# Altium schematic symbol library ms_Schlib.SchLib: 69 symbols
Pins are listed as number, name and electrical type; pins without a type are passive.

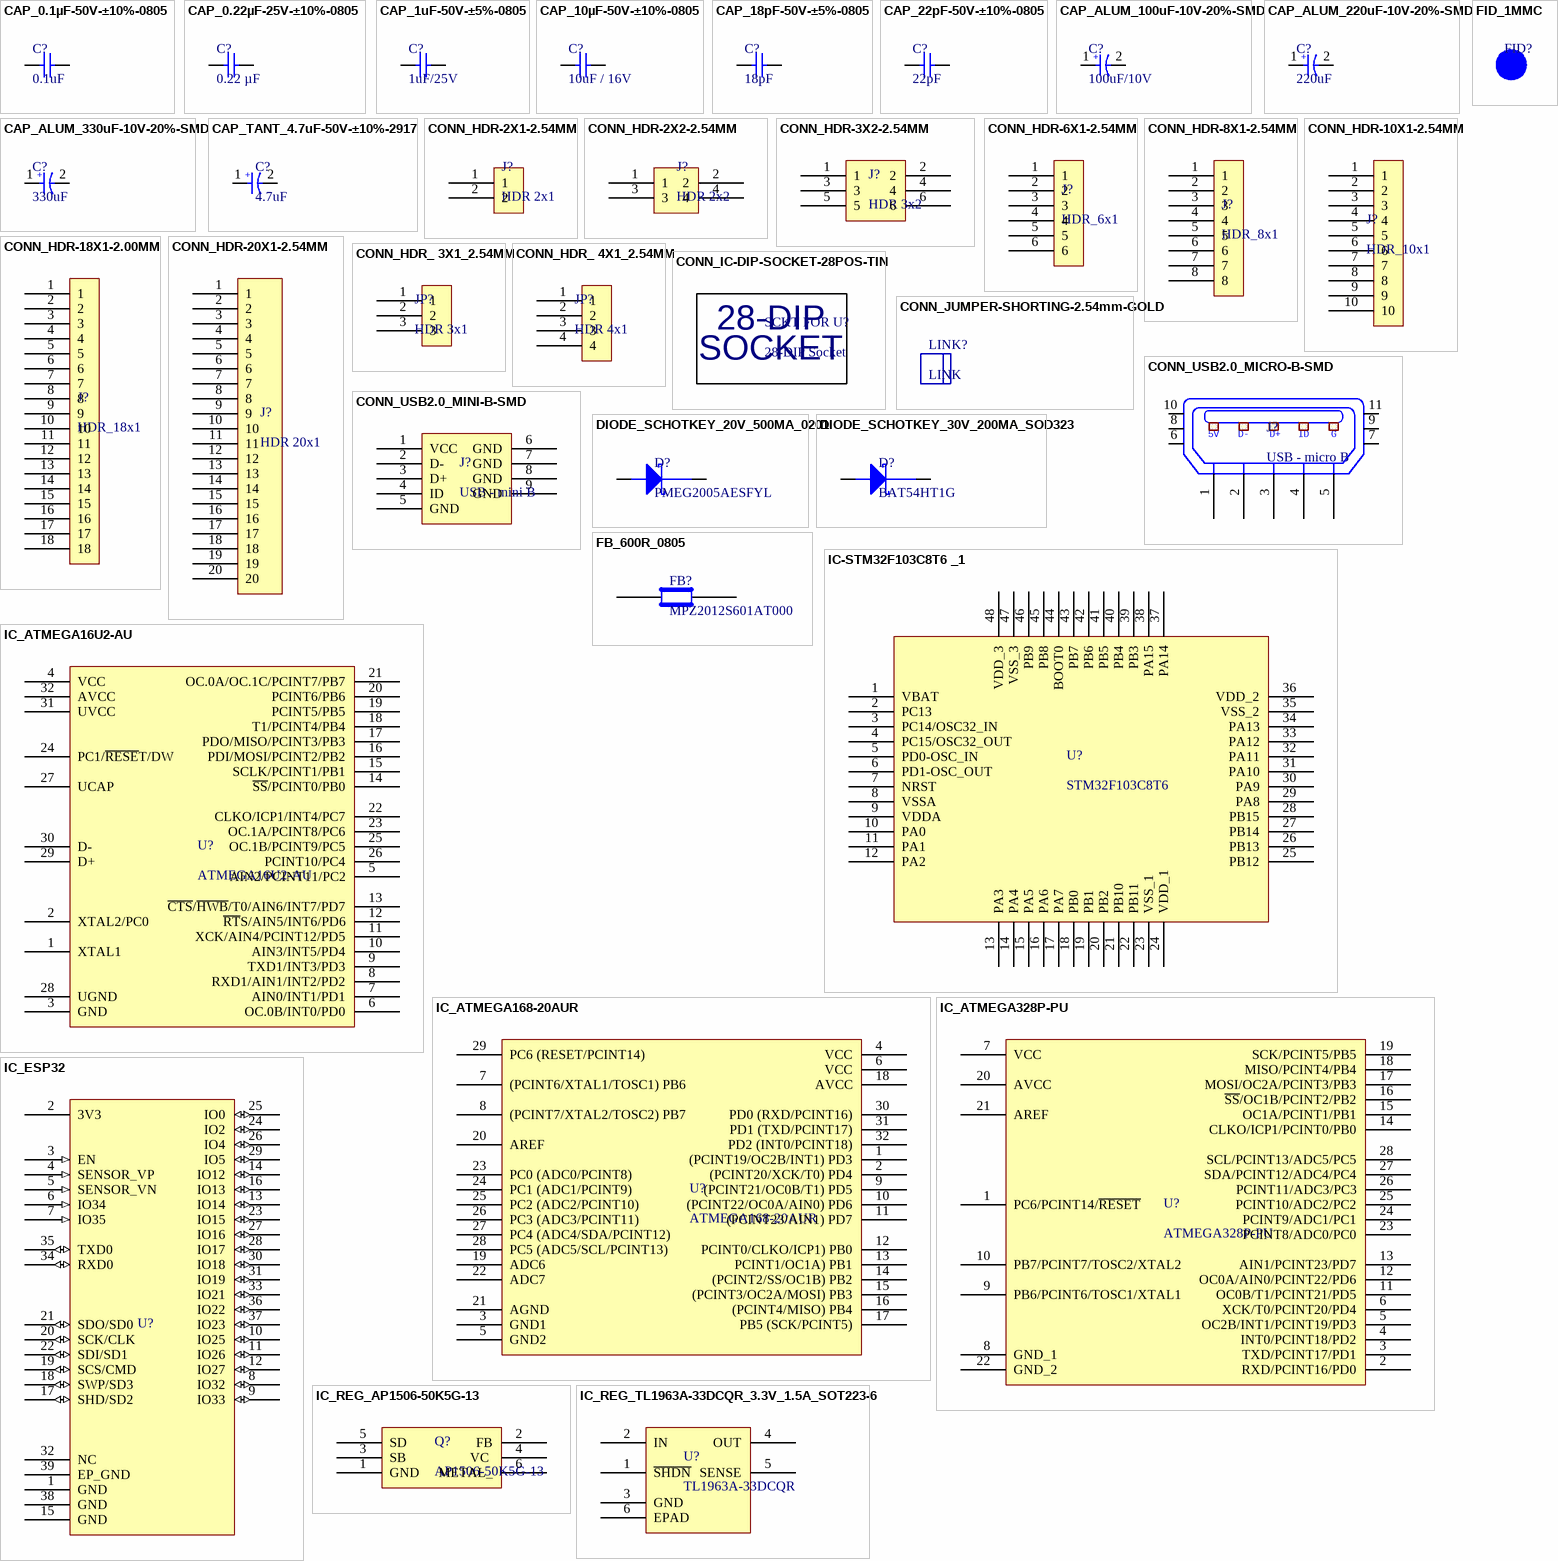
[diagram p0: symbols CAP_0.1µF-50V-±10%-0805 to IC_REG_TL1963A-33DCQR_3.3V_1.5A_SOT223-6]

## CAP_0.1µF-50V-±10%-0805
designator C?, comment 0.1uF
0.1 µF ±10% 50V Ceramic Capacitor X7R 0805 (2012 Metric); Manufacturer: TDK Corporation; Manufacturing Part Number: C2012X7R1H104K085AA; Package/Case: 0805 (2012 Metric); Supplier: Digikey; Supplier Part Number: 445-7534-1-ND
footprint C0805
pins: 1, 2

## CAP_0.22µF-25V-±10%-0805
designator C?, comment 0.22 µF
0.22 µF ±10% 25V Ceramic Capacitor X7R 0805 (2012 Metric); Manufacturer: KEMET; Manufacturing Part Number: C0805X224K3RECAUTO; Case/Package: 0805 (2012 Metric); Supplier: Digikey; Supplier Part Number: 399-C0805X224K3RECAUTOCT-ND
footprint C0805
pins: 1, 2

## CAP_1uF-50V-±5%-0805
designator C?, comment 1uF/25V
1 µF ±10% 25V Ceramic Capacitor X5R 0805 (2012 Metric); Manufacturer: TDK Corporation; Manufacturing Part Number: C2012X5R1E105K125AA; Package/Case: 0805 (2012 Metric); Supplier: Digikey; Supplier Part Number: 445-1419-1-ND
footprint C0805
pins: 1, 2

## CAP_10µF-50V-±10%-0805
designator C?, comment 10uF / 16V
10 µF ±20% 16V Ceramic Capacitor X5R 0805 (2012 Metric); Manufacturer: TDK Corporation; Manufacturing Part Number: C2012X5R1C106M125AC; Package/Case: 0805 (2012 Metric); Supplier: Digikey; Supplier Part Number: 445-4115-1-ND
footprint C0805
pins: 1, 2

## CAP_18pF-50V-±5%-0805
designator C?, comment 18pF
18 pF ±5% 50V Ceramic Capacitor C0G, NP0 0805 (2012 Metric); Manufacturer: KEMET; Manufacturing Part Number: C0805C180J5GAC7800; Package/Case: 0805 (2012 Metric); Supplier: Digikey; Supplier Part Number: 399-C0805C180J5GAC7800CT-ND
footprint C0805
pins: 1, 2

## CAP_22pF-50V-±10%-0805
designator C?, comment 22pF
22 pF ±5% 50V Ceramic Capacitor C0G, NP0 0805 (2012 Metric); Manufacturer: KEMET; Manufacturing Part Number: C0805C220J5GAC7800; Package/Case: 0805 (2012 Metric); Supplier: Digikey; Supplier Part Number: 399-C0805C220J5GAC7800CT-ND
footprint C0805
pins: 1, 2

## CAP_ALUM_100uF-10V-20%-SMD
designator C?, comment 100uF/10V
100 µF 10 V Aluminum Electrolytic Capacitors Radial, Can - SMD - 1000 Hrs @ 85°C; Manufacturer: Panasonic Electronic Components; Manufacturing Part Number: EEE-1AA101WR; Package/Case: Radial, Can - SMD; Supplier: Digikey; Supplier Part Number: PCE3867CT-ND
footprint C_ALU_C_SIZE
pins: 1, 2
text: +

## CAP_ALUM_220uF-10V-20%-SMD
designator C?, comment 220uF
Manufacturer: *; Manufacturing Part Number: *; Package/Case: *; Supplier: Digikey; Supplier Part Number: *
pins: 1, 2
text: +

## CAP_ALUM_330uF-10V-20%-SMD
designator C?, comment 330uF
Manufacturer: *; Manufacturing Part Number: *; Package/Case: *; Supplier: Digikey; Supplier Part Number: *
pins: 1, 2
text: +

## CAP_TANT_4.7uF-50V-±10%-2917
designator C?, comment 4.7uF
4.7 µF Molded Tantalum Capacitors 50 V 2917 (7343 Metric) 1.4Ohm; Manufacturer: KEMET; Manufacturing Part Number: T491D475K050AT; Package/Case: 2917 (7343 Metric); Supplier: Digikey; Supplier Part Number: 399-3792-1-ND
footprint C-2917
pins: 1, 2
text: +

## CONN_HDR-2X1-2.54MM
designator J?, comment HDR 2x1
Connector Header Through Hole 2 position 0.100" (2.54mm); Manufacturer: Adam Tech; Manufacturing Part Number: PH2-02-UA; Case/Package: TH; Supplier: Digikey; Supplier Part Number: 2057-PH2-02-UA-ND
footprint HDR_2X1_2.54MM
pins: 1, 2

## CONN_HDR-2X2-2.54MM
designator J?, comment HDR 2x2
Connector Header Through Hole 4 position 0.100" (2.54mm); Manufacturer: Amphenol ICC (FCI); Manufacturing Part Number: 68602-204HLF; Package/Case: TH; Supplier: Digikey; Supplier Part Number: 609-3369-ND
footprint HDR_2X2_2.54MM
pins: 1, 2, 3, 4

## CONN_HDR-3X2-2.54MM
designator J?, comment HDR 3x2
Connector Header Through Hole 6 position 0.100" (2.54mm); Manufacturer: Amphenol ICC (FCI); Manufacturing Part Number: 67997-106HLF; Package/Case: TH; Supplier: Digikey; Supplier Part Number: 609-3393-ND
footprint HDR_3X2_2.54MM
pins: 1, 2, 3, 4, 5, 6

## CONN_HDR-6X1-2.54MM
designator J?, comment HDR_6x1
6 Position Receptacle Connector 0.100" (2.54mm) Through Hole Tin; Manufacturer: Harwin Inc.; Manufacturing Part Number: M20-7820646; Package/Case: TH; Supplier: Digikey; Supplier Part Number: 952-1809-ND
footprint Hdr_Female_6x1_2.54mm
pins: 1, 2, 3, 4, 5, 6

## CONN_HDR-8X1-2.54MM
designator J?, comment HDR_8x1
8 Position Receptacle Connector 0.100" (2.54mm) Through Hole Gold; Manufacturer: Harwin Inc.; Manufacturing Part Number: M20-7820842; Package/Case: TH; Supplier: Digikey; Supplier Part Number: 952-1823-ND
footprint Hdr_Female_8x1_2.54mm
pins: 1, 2, 3, 4, 5, 6, 7, 8

## CONN_HDR-10X1-2.54MM
designator J?, comment HDR_10x1
10 Position Receptacle Connector 0.100" (2.54mm) Through Hole Tin; Manufacturer: Harwin Inc.; Manufacturing Part Number: M20-7821046; Package/Case: TH; Supplier: Digikey; Supplier Part Number: 952-1847-ND
footprint Hdr_Female_10x1_2.54mm
pins: 1, 2, 3, 4, 5, 6, 7, 8, 9, 10

## CONN_HDR-18X1-2.00MM
designator J?, comment HDR_18x1
Connector Header Through Hole 18 position 0.079"(2.00mm); Manufacturer: 3M; Manufacturing Part Number: 951118-8622-AR; Package/Case: TH; Supplier: Digikey; Supplier Part Number: 3M156413-18-ND
footprint HDR_18x1_2MM
pins: 1, 2, 3, 4, 5, 6, 7, 8, 9, 10, 11, 12, 13, 14, 15, 16, 17, 18

## CONN_HDR-20X1-2.54MM
designator J?, comment HDR 20x1
Connector Header Through Hole 20 position 0.100" (2.54mm); Manufacturer: Amphenol ICC (FCI); Manufacturing Part Number: 68000-220HLF; Package/Case: TH; Supplier: Digikey; Supplier Part Number: 609-5100-ND
footprint HDR_20X1_2.54MM
pins: 1, 2, 3, 4, 5, 6, 7, 8, 9, 10, 11, 12, 13, 14, 15, 16, 17, 18, 19, 20

## CONN_HDR_ 3X1_2.54MM
designator JP?, comment HDR 3x1
Connector Header Through Hole 3 position 0.100" (2.54mm); Manufacturer: Amphenol ICC (FCI); Manufacturing Part Number: 68000-103HLF; Package/Case: TH; Supplier: Digikey; Supplier Part Number: 609-3461-ND
footprint HDR_3X1_2.54MM
pins: 1, 2, 3

## CONN_HDR_ 4X1_2.54MM
designator JP?, comment HDR 4x1
Connector Header Through Hole 4 position 0.100" (2.54mm); Manufacturer: Amphenol ICC (FCI); Manufacturing Part Number: 68001-204HLF; Package/Case: TH; Supplier: Digikey; Supplier Part Number: 609-3402-ND
footprint HDR_4X1_2.54MM
pins: 1, 2, 3, 4

## CONN_IC-DIP-SOCKET-28POS-TIN
designator SCKT FOR U?, comment 28-DIP Socket
28 (2 x 14) Pos DIP, 0.3" (7.62mm) Row Spacing Socket Tin Through Hole; Manufacturer: 3M; Manufacturing Part Number: 4828-3004-CP; Package/Case: TH; Supplier: Digikey; Supplier Part Number: 3M5480-ND
footprint 28_DIP_7.62mm_SOCKET
text: 28-DIP; SOCKET

## CONN_JUMPER-SHORTING-2.54mm-GOLD
designator LINK?, comment LINK  (mechanical)
2 (1 x 2) Position Shunt Connector Black Open Top 0.100" (2.54mm) Gold; Manufacturer: Sullins Connector Solutions; Manufacturing Part Number: QPC02SXGN-RC; Package/Case: NA; Supplier: Digikey; Supplier Part Number: S9337-ND

## CONN_USB2.0_MICRO-B-SMD
designator J?, comment USB - micro B
USB - micro B USB 2.0 Receptacle Connector 5 Position Surface Mount, Right Angle; Through Hole; Manufacturer: Amphenol ICC (FCI); Manufacturing Part Number: 10118193-0001LF; Package/Case: SMD; Supplier: Digikey; Supplier Part Number: 609-4616-1-ND
footprint 10118193
pins: 1 P1, 2 P2, 3 P3, 4 P4, 5 P5, 6, 7, 8, 9, 10, 11
text: 5V; D-; D+; ID; G

## CONN_USB2.0_MINI-B-SMD
designator J?, comment USB - mini B
USB - mini B USB 2.0 OTG  Receptacle Connector 5 Position Surface Mount, Right Angle; Manufacturer: Molex; Manufacturing Part Number: 0675031020; Package/Case: SMD; Supplier: Digikey; Supplier Part Number: WM5461CT-ND
footprint Mini_USB-B
pins: 1 VCC, 2 D-, 3 D+, 4 ID, 5 GND, 6 GND, 7 GND, 8 GND, 9 GND

## DIODE_SCHOTKEY_20V_500MA_0201
designator D?, comment PMEG2005AESFYL
Diode Schottky 20 V 500mA Surface Mount DSN0603-2; Manufacturer: Nexperia USA Inc.; Manufacturing Part Number: PMEG2005AESFYL; Package/Case: 0201 (0603 Metric); Supplier: Digikey; Supplier Part Number: 1727-2287-1-ND
footprint L-1210
pins: 1 Cathode, 2 Anode

## DIODE_SCHOTKEY_30V_200MA_SOD323
designator D?, comment BAT54HT1G
DIODE SCHOTKEY 30V 200MA SOD323; Manufacturer: Fairchild Semiconductor; Manufacturing Part Number: BAT54HT1G; Package/Case: SOD323; Supplier: Digikey; Supplier Part Number: BAT54HT1GCT-ND
footprint SOD323
pins: 1 Cathode, 2 Anode

## FB_600R_0805
designator FB?, comment MPZ2012S601AT000
600 Ohms @ 100 MHz 1 Power Line Ferrite Bead 0805 (2012 Metric) 2A 100mOhm; Manufacturer: TDK Corporation; Manufacturing Part Number: MPZ2012S601AT000; Package/Case: 0805 (2012 Metric); Supplier: Digikey; Supplier Part Number: 445-2206-1-ND
footprint C0805
pins: 1, 2

## FID_1MMC
designator FID?  (value not drawn)  (no BOM)
Fiducial 40mil Diameter, 120mil Mask; Manufacturer: NA; Manufacturing Part Number: NA; Package/Case: NA; Supplier: NA; Supplier Part Number: NA
footprint FID_40X120D

## IC-STM32F103C8T6 _1
designator U?, comment STM32F103C8T6
ARM® Cortex®-M3 STM32F1 Microcontroller IC 32-Bit Single-Core 72MHz 64KB (64K x 8) FLASH; Manufacturer: STMicroelectronics; Manufacturing Part Number: STM32F103C8T6; Package/Case: 48-LQFP; Supplier: Digikey; Supplier Part Number: 497-6063-ND
footprint LQFP48
pins: 1 VBAT, 2 PC13, 3 PC14/OSC32_IN, 4 PC15/OSC32_OUT, 5 PD0-OSC_IN, 6 PD1-OSC_OUT, 7 NRST, 8 VSSA, 9 VDDA, 10 PA0, 11 PA1, 12 PA2, 13 PA3, 14 PA4, 15 PA5, 16 PA6, 17 PA7, 18 PB0, 19 PB1, 20 PB2, 21 PB10, 22 PB11, 23 VSS_1, 24 VDD_1, 25 PB12, 26 PB13, 27 PB14, 28 PB15, 29 PA8, 30 PA9, 31 PA10, 32 PA11, 33 PA12, 34 PA13, 35 VSS_2, 36 VDD_2, 37 PA14, 38 PA15, 39 PB3, 40 PB4, 41 PB5, 42 PB6, 43 PB7, 44 BOOT0, 45 PB8, 46 PB9, 47 VSS_3, 48 VDD_3

## IC_ATMEGA16U2-AU
designator U?, comment ATMEGA16U2-AU
AVR series Microcontroller IC 8-Bit 16MHz 16KB (8K x 16) FLASH 32-TQFP (7x7); Manufacturer: Microchip Technology; Manufacturing Part Number: ATMEGA16U2-AU; Package/Case: 32-TQFP; Supplier: Digikey; Supplier Part Number: ATMEGA16U2-AU-ND
footprint TQFP32
pins: 1 XTAL1, 2 XTAL2/PC0, 3 GND, 4 VCC, 5 AIN2/PCINT11/PC2, 6 OC.0B/INT0/PD0, 7 AIN0/INT1/PD1, 8 RXD1/AIN1/INT2/PD2, 9 TXD1/INT3/PD3, 10 AIN3/INT5/PD4, 11 XCK/AIN4/PCINT12/PD5, 12 ~{RT}S/AIN5/INT6/PD6, 13 ~{CTS}/~{HWB}/T0/AIN6/INT7/PD7, 14 ~{SS}/PCINT0/PB0, 15 SCLK/PCINT1/PB1, 16 PDI/MOSI/PCINT2/PB2, 17 PDO/MISO/PCINT3/PB3, 18 T1/PCINT4/PB4, 19 PCINT5/PB5, 20 PCINT6/PB6, 21 OC.0A/OC.1C/PCINT7/PB7, 22 CLKO/ICP1/INT4/PC7, 23 OC.1A/PCINT8/PC6, 24 PC1/~{RESE}T/DW, 25 OC.1B/PCINT9/PC5, 26 PCINT10/PC4, 27 UCAP, 28 UGND, 29 D+, 30 D-, 31 UVCC, 32 AVCC

## IC_ATMEGA168-20AUR
designator U?, comment ATMEGA168-20AUR
AVR series Microcontroller IC 8-Bit 20MHz 16KB (8K x 16) FLASH 32-TQFP (7x7); Manufacturer: Microchip Technology; Manufacturing Part Number: ATMEGA168-20AUR; Package/Case: 32-TQFP; Supplier: Digikey; Supplier Part Number: ATMEGA168-20AURCT-ND
footprint TQFP32
pins: 1 (PCINT19/OC2B/INT1) PD3, 2 (PCINT20/XCK/T0) PD4, 3 GND1, 4 VCC, 5 GND2, 6 VCC, 7 (PCINT6/XTAL1/TOSC1) PB6, 8 (PCINT7/XTAL2/TOSC2) PB7, 9 (PCINT21/OC0B/T1) PD5, 10 (PCINT22/OC0A/AIN0) PD6, 11 (PCINT23/AIN1) PD7, 12 PCINT0/CLKO/ICP1) PB0, 13 PCINT1/OC1A) PB1, 14 (PCINT2/SS/OC1B) PB2, 15 (PCINT3/OC2A/MOSI) PB3, 16 (PCINT4/MISO) PB4, 17 PB5 (SCK/PCINT5), 18 AVCC, 19 ADC6, 20 AREF, 21 AGND, 22 ADC7, 23 PC0 (ADC0/PCINT8), 24 PC1 (ADC1/PCINT9), 25 PC2 (ADC2/PCINT10), 26 PC3 (ADC3/PCINT11), 27 PC4 (ADC4/SDA/PCINT12), 28 PC5 (ADC5/SCL/PCINT13), 29 PC6 (RESET/PCINT14), 30 PD0 (RXD/PCINT16), 31 PD1 (TXD/PCINT17), 32 PD2 (INT0/PCINT18)

## IC_ATMEGA328P-PU
designator U?, comment ATMEGA328P-PU
AVR series Microcontroller IC 8-Bit 20MHz 32KB (16K x 16) FLASH 28-PDIP; Manufacturer: Microchip Technology; Manufacturing Part Number: ATMEGA328P-PU; Package/Case: 28-DIP (0.300", 7.62mm); Supplier: Digikey; Supplier Part Number: ATMEGA328P-PU-ND
footprint 28_DIP_7.62mm
pins: 1 PC6/PCINT14/~{RESET}, 2 RXD/PCINT16/PD0, 3 TXD/PCINT17/PD1, 4 INT0/PCINT18/PD2, 5 OC2B/INT1/PCINT19/PD3, 6 XCK/T0/PCINT20/PD4, 7 VCC, 8 GND_1, 9 PB6/PCINT6/TOSC1/XTAL1, 10 PB7/PCINT7/TOSC2/XTAL2, 11 OC0B/T1/PCINT21/PD5, 12 OC0A/AIN0/PCINT22/PD6, 13 AIN1/PCINT23/PD7, 14 CLKO/ICP1/PCINT0/PB0, 15 OC1A/PCINT1/PB1, 16 ~{SS}/OC1B/PCINT2/PB2, 17 MOSI/OC2A/PCINT3/PB3, 18 MISO/PCINT4/PB4, 19 SCK/PCINT5/PB5, 20 AVCC, 21 AREF, 22 GND_2, 23 PCINT8/ADC0/PC0, 24 PCINT9/ADC1/PC1, 25 PCINT10/ADC2/PC2, 26 PCINT11/ADC3/PC3, 27 SDA/PCINT12/ADC4/PC4, 28 SCL/PCINT13/ADC5/PC5

## IC_ESP32
designator U?, comment ESP32  (value not drawn)
Bluetooth, WiFi 802.11b/g/n, Bluetooth v4.2 +EDR, Class 1, 2 and 3 Transceiver Module 2.4GHz ~ 2.5GHz Integrated, Trace Surface MountESP32-WROOM-32D; Manufacturer: Espressif Systems; Manufacturing Part Number: ESP32-WROOM-32D-N16; Package/Case: 38-SMD Module; Supplier: Digikey; Supplier Part Number: 1965-ESP32-WROOM-32D-N16CT-ND
footprint ESP-WROOM-32
pins: 1 GND (power), 2 3V3 (power), 3 EN (in), 4 SENSOR_VP (in), 5 SENSOR_VN (in), 6 IO34 (in), 7 IO35 (in), 8 IO32 (io), 9 IO33 (io), 10 IO25 (io), 11 IO26 (io), 12 IO27 (io), 13 IO14 (io), 14 IO12 (io), 15 GND (power), 16 IO13 (io), 17 SHD/SD2 (io), 18 SWP/SD3 (io), 19 SCS/CMD (io), 20 SCK/CLK (io), 21 SDO/SD0 (io), 22 SDI/SD1 (io), 23 IO15 (io), 24 IO2 (io), 25 IO0 (io), 26 IO4 (io), 27 IO16 (io), 28 IO17 (io), 29 IO5 (io), 30 IO18 (io), 31 IO19 (io), 32 NC, 33 IO21 (io), 34 RXD0 (io), 35 TXD0 (io), 36 IO22 (io), 37 IO23 (io), 38 GND (power), 39 EP_GND (power)

## IC_REG_AP1506-50K5G-13
designator Q?, comment AP1506-50K5G-13
Buck Switching Regulator IC Positive Fixed 5V 1 Output 3A TO-263-6, D²Pak (5 Leads + Tab), TO-263BA; Manufacturer: Diodes Incorporated; Manufacturing Part Number: AP1506-50K5G-13; Package/Case: TO-263-6, D²Pak (5 Leads + Tab), TO-263BA; Supplier: Digikey; Supplier Part Number: AP1506-50K5G-13CT-ND
pins: 1 GND , 2 FB, 3 SB, 4 VC , 5 SD, 6 METAL_

## IC_REG_TL1963A-33DCQR_3.3V_1.5A_SOT223-6
designator U?, comment TL1963A-33DCQR
Linear Voltage Regulator IC Positive Fixed 1 Output 1.5A SOT-223-6; Manufacturer: Texas Instruments; Manufacturing Part Number: TL1963A-33DCQR; Package/Case: SOT-223-6; Supplier: Digikey; Supplier Part Number: 296-24534-1-ND
footprint DCQ(R-PDSO-G6)
pins: 1 ~{SHDN}, 2 IN, 3 GND, 4 OUT, 5 SENSE, 6 EPAD

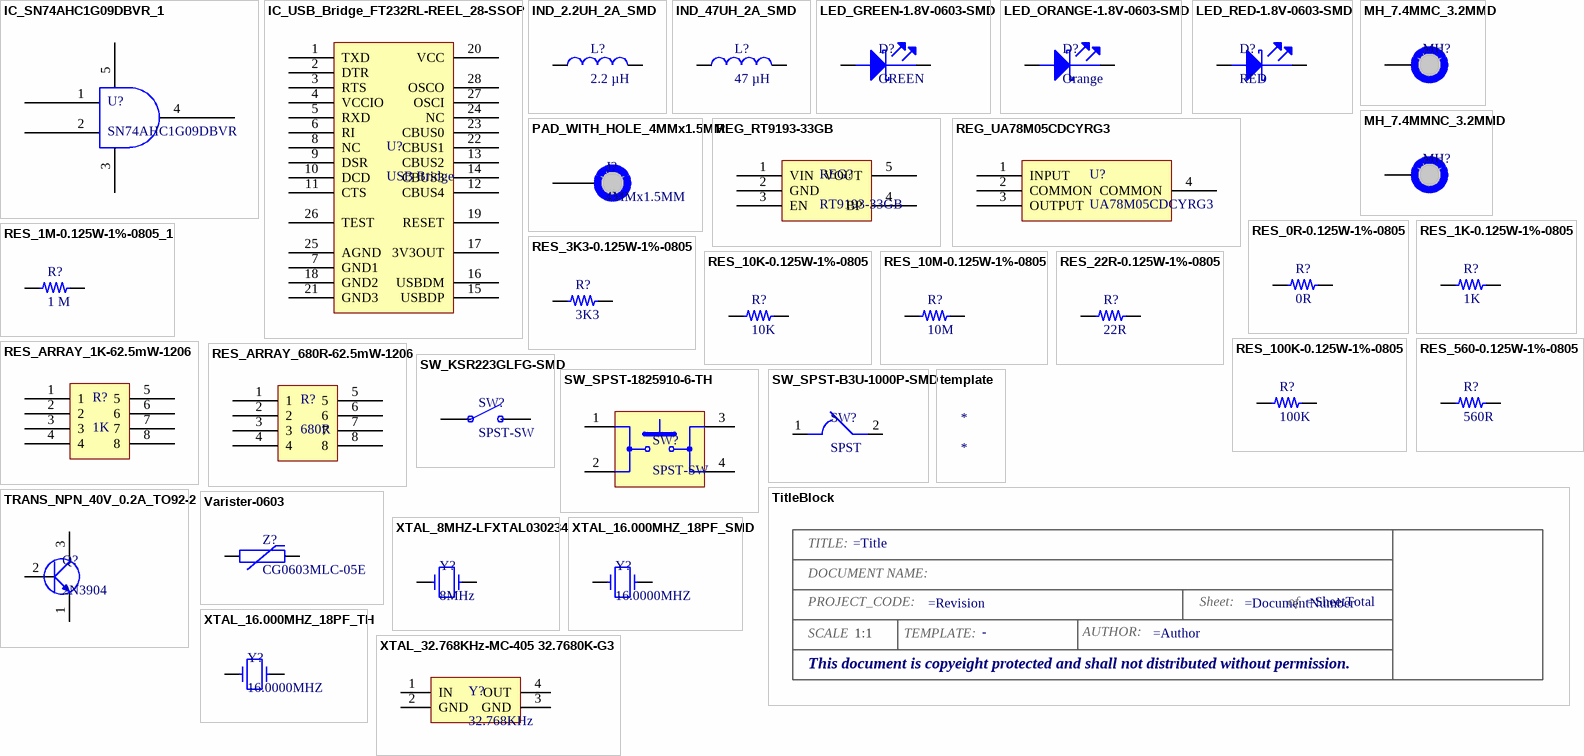
[diagram p1: symbols IC_SN74AHC1G09DBVR_1 to XTAL_32.768KHz-MC-405 32.7680K-G3]

## IC_SN74AHC1G09DBVR_1
designator U?, comment SN74AHC1G09DBVR
AND Gate IC 1 Channel Open Drain SOT-23-5; Manufacturer: Texas Instruments; Manufacturing Part Number: SN74AHC1G09DBVR; Package/Case: SC-74A, SOT-753; Supplier: Digikey; Supplier Part Number: 296-29202-1-ND
footprint DBV_SOT_23_5
pins: 1, 2, 3, 4, 5

## IC_USB_Bridge_FT232RL-REEL_28-SSOP
designator U?, comment USB Bridge
USB Bridge, USB to UART USB 2.0 UART Interface 28-SSOP; Manufacturer: FTDI, Future Technology Devices International Ltd; Manufacturing Part Number: FT232RL-REEL; Package/Case: 28-SSOP (0.209", 5.30mm Width); Supplier: Digikey; Supplier Part Number: 768-1007-1-ND
footprint SSOP-28
pins: 1 TXD, 2 DTR, 3 RTS, 4 VCCIO, 5 RXD, 6 RI, 7 GND1, 8 NC, 9 DSR, 10 DCD, 11 CTS, 12 CBUS4, 13 CBUS2, 14 CBUS3, 15 USBDP, 16 USBDM, 17 3V3OUT, 18 GND2, 19 RESET, 20 VCC, 21 GND3, 22 CBUS1, 23 CBUS0, 24 NC, 25 AGND, 26 TEST, 27 OSCI, 28 OSCO

## IND_2.2UH_2A_SMD
designator L?, comment 2.2 µH
2.2 µH Unshielded Wirewound Inductor 2 A 80mOhm 1210 (3225 Metric); Manufacturer: KEMET; Manufacturing Part Number: L1210R2R2MDWIT; Package/Case: 1210 (3225 Metric); Supplier: Digikey; Supplier Part Number: 399-9598-1-ND
footprint C1210_IND
pins: 1, 2

## IND_47UH_2A_SMD
designator L?, comment 47 µH
47 µH Unshielded Drum Core, Wirewound Inductor 320 mA 871mOhm Max 1210 (3225 Metric); Manufacturer: Taiyo Yuden; Manufacturing Part Number: CBC3225T470MRV; Package/Case: 1210 (3225 Metric); Supplier: Digikey; Supplier Part Number: 587-6398-1-ND
footprint L-1210
pins: 1, 2

## LED_GREEN-1.8V-0603-SMD
designator D?, comment GREEN
Green 570nm LED Indication - Discrete 1.7V 0603 (1608 Metric); Manufacturer: OSRAM Opto Semiconductors Inc.; Manufacturing Part Number: LG L29K-G2J1-24-Z; Package/Case: 0603 (1608 Metric); Supplier: Digikey; Supplier Part Number: 475-2709-1-ND
footprint LED_0603
pins: 1 Cathode, 2 Anode

## LED_ORANGE-1.8V-0603-SMD
designator D?, comment Orange
Orange 606nm LED Indication - Discrete 1.8V 0603 (1608 Metric); Manufacturer: OSRAM Opto Semiconductors Inc.; Manufacturing Part Number: LO L29K-H2K1-24-Z; Package/Case: 0603 (1608 Metric); Supplier: Digikey; Supplier Part Number: 475-2740-1-ND
footprint LED_0603
pins: 1 Cathode, 2 Anode

## LED_RED-1.8V-0603-SMD
designator D?, comment RED
Red 621nm LED Indication - Discrete 2V 0805 (2012 Metric); Manufacturer: Lite-On Inc.; Manufacturing Part Number: LTST-C170EKT; Package/Case: 0805 (2012 Metric); Supplier: Digikey; Supplier Part Number: 160-1178-1-ND
footprint LED_0805
pins: 1 Cathode, 2 Anode

## MH_7.4MMC_3.2MMD
designator MH?  (value not drawn)  (no BOM)
Mounting Hole 7.4mm Diameter 3.2mm Drill; Manufacturer: NA; Manufacturing Part Number: NA; Package/Case: NA; Supplier: NA; Supplier Part Number: NA
footprint MH_7.4MMC_3.2MMD
pins: 1

## MH_7.4MMNC_3.2MMD
designator MH?  (value not drawn)  (no BOM)
Hole 7.4mm Diameter (Non Copper)_3.2mm Drill NPTH; Manufacturer: NA; Manufacturing Part Number: NA; Package/Case: NA; Supplier: NA; Supplier Part Number: NA
footprint MH_7.4MMD_3.2MMD_NON_COPPER_NPTH
pins: 1

## PAD_WITH_HOLE_4MMx1.5MM
designator J?, comment 4MMx1.5MM  (no BOM)
Pad with a hole 4mmx1.5mm; Manufacturer: NA; Manufacturing Part Number: NA; Package/Case: NA; Supplier: NA; Supplier Part Number: NA
footprint PAD_WITH_HOLE_4MMx1.5MM
pins: 1

## REG_RT9193-33GB
designator REG?, comment RT9193-33GB
Linear Voltage Regulator IC Positive Fixed 1 Output 300mA SOT-23-5; Manufacturer: Richtek USA Inc.; Manufacturing Part Number: RT9193-33GB; Package/Case: SOT-23-5; Supplier: Digikey; Supplier Part Number: 1028-1014-1-ND
footprint SOT-23-5
pins: 1 VIN, 2 GND, 3 EN, 4 BP, 5 VOUT

## REG_UA78M05CDCYRG3
designator U?, comment UA78M05CDCYRG3
Linear Voltage Regulator IC Positive Fixed 1 Output 500mA SOT-223-4; Manufacturer: Texas Instruments; Manufacturing Part Number: UA78M05CDCYRG3; Package/Case: TO-261-4, TO-261AA; Supplier: Digikey; Supplier Part Number: 296-50456-1-ND
footprint SOP6-REG
pins: 1 INPUT, 2 COMMON, 3 OUTPUT, 4 COMMON

## RES_0R-0.125W-1%-0805
designator R?, comment 0R
0 Ohms Jumper 0.125W, 1/8W Chip Resistor 0805 (2012 Metric) Moisture Resistant Thick Film; Manufacturer: YAGEO; Manufacturing Part Number: RC0805JR-070RL; Package/Case: 0805 (2012 Metric); Supplier: Digikey; Supplier Part Number: 311-0.0ARCT-ND
footprint R0805
pins: 1, 2

## RES_1K-0.125W-1%-0805
designator R?, comment 1K
1 kOhms ±1% 0.125W, 1/8W Chip Resistor 0805 (2012 Metric) Moisture Resistant Thick Film; Manufacturer: YAGEO; Manufacturing Part Number: RC0805FR-071KL; Package/Case: 0805 (2012 Metric); Supplier: Digikey; Supplier Part Number: 311-1.00KCRCT-ND
footprint R0805
pins: 1, 2

## RES_1M-0.125W-1%-0805_1
designator R?, comment 1 M
1 MOhms ±1% 0.125W, 1/8W Chip Resistor 0805 (2012 Metric) Moisture Resistant Thick Film; Manufacturer: YAGEO; Manufacturing Part Number: RC0805FR-071ML; Case/Package: 0805 (2012 Metric); Supplier: Digikey; Supplier Part Number: 311-1.00MCRCT-ND
footprint R0805
pins: 1, 2

## RES_3K3-0.125W-1%-0805
designator R?, comment 3K3
3.3 kOhms ±1% 0.125W, 1/8W Chip Resistor 0805 (2012 Metric) Moisture Resistant Thick Film; Manufacturer: YAGEO; Manufacturing Part Number: RC0805FR-073K3L; Package/Case: 0805 (2012 Metric); Supplier: Digikey; Supplier Part Number: 311-3.30KCRCT-ND
footprint R0805
pins: 1, 2

## RES_10K-0.125W-1%-0805
designator R?, comment 10K
10 kOhms ±1% 0.125W, 1/8W Chip Resistor 0805 (2012 Metric) Moisture Resistant Thick Film; Manufacturer: YAGEO; Manufacturing Part Number: RC0805FR-0710KL; Package/Case: 0805 (2012 Metric); Supplier: Digikey; Supplier Part Number: 311-10.0KCRCT-ND
footprint R0805
pins: 1, 2

## RES_10M-0.125W-1%-0805
designator R?, comment 10M
10 MOhms ±1% 0.125W, 1/8W Chip Resistor 0805 (2012 Metric) Automotive AEC-Q200, High Voltage Thick Film; Manufacturer: Rohm Semiconductor; Manufacturing Part Number: KTR10EZPF1005; Package/Case: 0805 (2012 Metric); Supplier: Digikey; Supplier Part Number: RHM10.0MAHCT-ND
footprint R0805
pins: 1, 2

## RES_22R-0.125W-1%-0805
designator R?, comment 22R
22 Ohms ±1% 0.125W, 1/8W Chip Resistor 0805 (2012 Metric) Moisture Resistant Thick Film; Manufacturer: YAGEO; Manufacturing Part Number: RC0805FR-0722RL; Package/Case: 0805 (2012 Metric); Supplier: Digikey; Supplier Part Number: 311-22.0CRCT-ND
footprint R0805
pins: 1, 2

## RES_100K-0.125W-1%-0805
designator R?, comment 100K
100 kOhms ±1% 0.125W, 1/8W Chip Resistor 0805 (2012 Metric) Moisture Resistant Thick Film; Manufacturer: YAGEO; Manufacturing Part Number: RC0805FR-07100KL; Package/Case: 0805 (2012 Metric); Supplier: Digikey; Supplier Part Number: 311-100KCRCT-ND
footprint R0805
pins: 1, 2

## RES_560-0.125W-1%-0805
designator R?, comment 560R
560 Ohms ±1% 0.125W, 1/8W Chip Resistor 0805 (2012 Metric) Moisture Resistant Thick Film; Manufacturer: YAGEO; Manufacturing Part Number: RC0805FR-07560RL; Package/Case: 0805 (2012 Metric); Supplier: Digikey; Supplier Part Number: 311-560CRCT-ND
footprint R0805
pins: 1, 2

## RES_ARRAY_1K-62.5mW-1206
designator R?, comment 1K
1k Ohm ±5% 62.5mW Power Per Element Isolated 4 Resistor Network/Array ±200ppm/°C 1206 (3216 Metric), Convex, Long Side Terminals; Manufacturer: YAGEO; Manufacturing Part Number: YC164-JR-071KL; Package/Case: 1206 (3216 Metric); Supplier: Digikey; Supplier Part Number: YC164J-1.0KCT-ND
footprint SOP8_RES_ARRAY
pins: 1, 2, 3, 4, 5, 6, 7, 8

## RES_ARRAY_680R-62.5mW-1206
designator R?, comment 680R
680 Ohm ±5% 62.5mW Power Per Element Isolated 4 Resistor Network/Array ±200ppm/°C 1206 (3216 Metric), Convex, Long Side Terminals; Manufacturer: YAGEO; Manufacturing Part Number: YC164-JR-07680RL; Package/Case: 1206 (3216 Metric); Supplier: Digikey; Supplier Part Number: YC164J-680CT-ND
footprint SOP8_RES_ARRAY
pins: 1, 2, 3, 4, 5, 6, 7, 8

## SW_KSR223GLFG-SMD
designator SW?, comment SPST-SW
Tactile Switch SPST-NO Top Actuated Surface Mount; Manufacturer: C&K; Manufacturing Part Number: KSR223GLFG; Package/Case: SMD; Supplier: Digikey; Supplier Part Number: 401-1704-1-ND
footprint SPST-SW
pins: 1, 2

## SW_SPST-1825910-6-TH
designator SW?, comment SPST-SW
Tactile Switch SPST-NO Top Actuated Through Hole; Manufacturer: TE Connectivity ALCOSWITCH Switches; Manufacturing Part Number: 1825910-6; Package/Case: TH; Supplier: Digikey; Supplier Part Number: 450-1650-ND
footprint 1825910-6
pins: 1, 2, 3, 4

## SW_SPST-B3U-1000P-SMD
designator SW?, comment SPST
Tactile Switch SPST-NO Top Actuated Surface Mount; Manufacturer: Omron Electronics Inc-EMC Div; Manufacturing Part Number: B3U-1000P; Package/Case: SMD; Supplier: Digikey; Supplier Part Number: SW1020CT-ND
footprint SPST-SMD
pins: 1, 2

## template
designator *
Manufacturer: *; Manufacturing Part Number: *; Package/Case: *; Supplier: Digikey; Supplier Part Number: *

## TitleBlock
designator *  (value not drawn)  (graphical)
Standard Title Block; TEMPLATE: -
text: TITLE:; DOCUMENT NAME:; PROJECT_CODE:; Sheet:; of; SCALE; 1:1; TEMPLATE:; AUTHOR:; This document is copyeight protected and shall not distributed without permission.

## TRANS_NPN_40V_0.2A_TO92-2
designator Q?, comment 2N3904
Bipolar (BJT) Transistor NPN 40 V 200 mA 270MHz 625 mW Through Hole TO-92-3; Manufacturer: STMicroelectronics; Manufacturing Part Number: 2N3904; Case/Package: TO-92-3; Supplier: Digikey; Supplier Part Number: 497-2395-ND
footprint TO-92_2
pins: 1 E, 2 B, 3 C

## Varister-0603
designator Z?, comment CG0603MLC-05E
VARISTER 0603; Manufacturer: Bourns Inc.; Manufacturing Part Number: CG0603MLC-05E; Package/Case: 0603(1608 Metric); Supplier: Digikey; Supplier Part Number: CG0603MLC-05ECT-ND
footprint R0603
pins: 1, 2

## XTAL_8MHZ-LFXTAL030234
designator Y?, comment 8MHz
Crystals 8MHz 22pF -20C 70C; Manufacturer: IQD Frequency Products; Manufacturing Part Number: LFXTAL030234Reel; Package/Case: SMD; Supplier: Mouser; Supplier Part Number: 449-LFXTAL030234REEL
footprint XTAL_314_240X47_SMD (CASE: TH)
pins: 1, 2

## XTAL_16.000MHZ_18PF_SMD
designator Y?, comment 16.0000MHZ
16 MHz ±20ppm Crystal 18pF 50 Ohms  2-SMD No Lead; Manufacturer: Abracon LLC; Manufacturing Part Number: ABM7-16.000MHZ-D2Y-T; Package/Case: 2-SMD, No Lead; Supplier: Digikey; Supplier Part Number: 535-9840-1-ND
footprint ABM7_V1_1_BIG
pins: 1, 2

## XTAL_16.000MHZ_18PF_TH
designator Y?, comment 16.0000MHZ
16 MHz ±20ppm Crystal 18pF 40 Ohms HC-49/US; Manufacturer: Abracon LLC; Manufacturing Part Number: 535-9041-ND; Package/Case: TH; Supplier: Digikey; Supplier Part Number: ABL-16.000MHZ-B2
footprint ABL_2
pins: 1, 2

## XTAL_32.768KHz-MC-405 32.7680K-G3
designator Y?, comment 32.768KHz
32.768 kHz ±20ppm Crystal 20pF 50 kOhms 4-SOJ, 2.29mm pitch; Manufacturer: EPSON; Manufacturing Part Number: MC-405 32.7680K-G3:ROHS; Package/Case: SMD; Supplier: Digikey; Supplier Part Number: MC-40532.7680K-G3:ROHS-ND
footprint XTAL_MC-405-32.7680K-G3
pins: 1 IN, 2 GND, 3 GND, 4 OUT